# Altium schematic symbol library MC9S08AC128.Schlib: 1 symbol
Pins are listed as number, name and electrical type; pins without a type are passive.

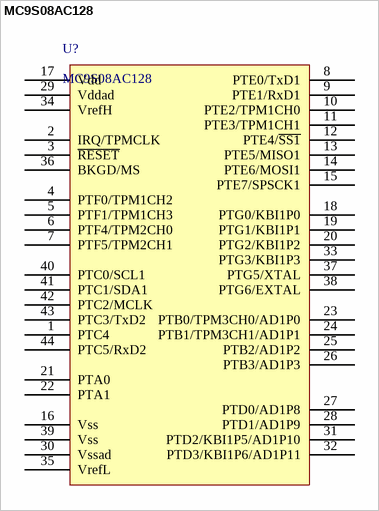
[diagram p0: symbol MC9S08AC128]

## MC9S08AC128
designator U?
pins: 1 PTC4, 2 IRQ/TPMCLK, 3 ~{RESET}, 4 PTF0/TPM1CH2, 5 PTF1/TPM1CH3, 6 PTF4/TPM2CH0, 7 PTF5/TPM2CH1, 8 PTE0/TxD1, 9 PTE1/RxD1, 10 PTE2/TPM1CH0, 11 PTE3/TPM1CH1, 12 PTE4/~{SS1}, 13 PTE5/MISO1, 14 PTE6/MOSI1, 15 PTE7/SPSCK1, 16 Vss, 17 Vdd, 18 PTG0/KBI1P0, 19 PTG1/KBI1P1, 20 PTG2/KBI1P2, 21 PTA0, 22 PTA1, 23 PTB0/TPM3CH0/AD1P0, 24 PTB1/TPM3CH1/AD1P1, 25 PTB2/AD1P2, 26 PTB3/AD1P3, 27 PTD0/AD1P8, 28 PTD1/AD1P9, 29 Vddad, 30 Vssad, 31 PTD2/KBI1P5/AD1P10, 32 PTD3/KBI1P6/AD1P11, 33 PTG3/KBI1P3, 34 VrefH, 35 VrefL, 36 BKGD/MS, 37 PTG5/XTAL, 38 PTG6/EXTAL, 39 Vss, 40 PTC0/SCL1, 41 PTC1/SDA1, 42 PTC2/MCLK, 43 PTC3/TxD2, 44 PTC5/RxD2